# Altium footprint library PCB_Connector.PcbLib: 8 footprints
Each footprint in its own frame and in the unit in brackets; x right, y up, seen from the top. Pads: shape width x height; smd on the part's side, far side on the other; paste and mask are expansions set on the pad; w line width, h text height; cw(c..) or ccw(c..) is an arc to the next point about the centre after c.
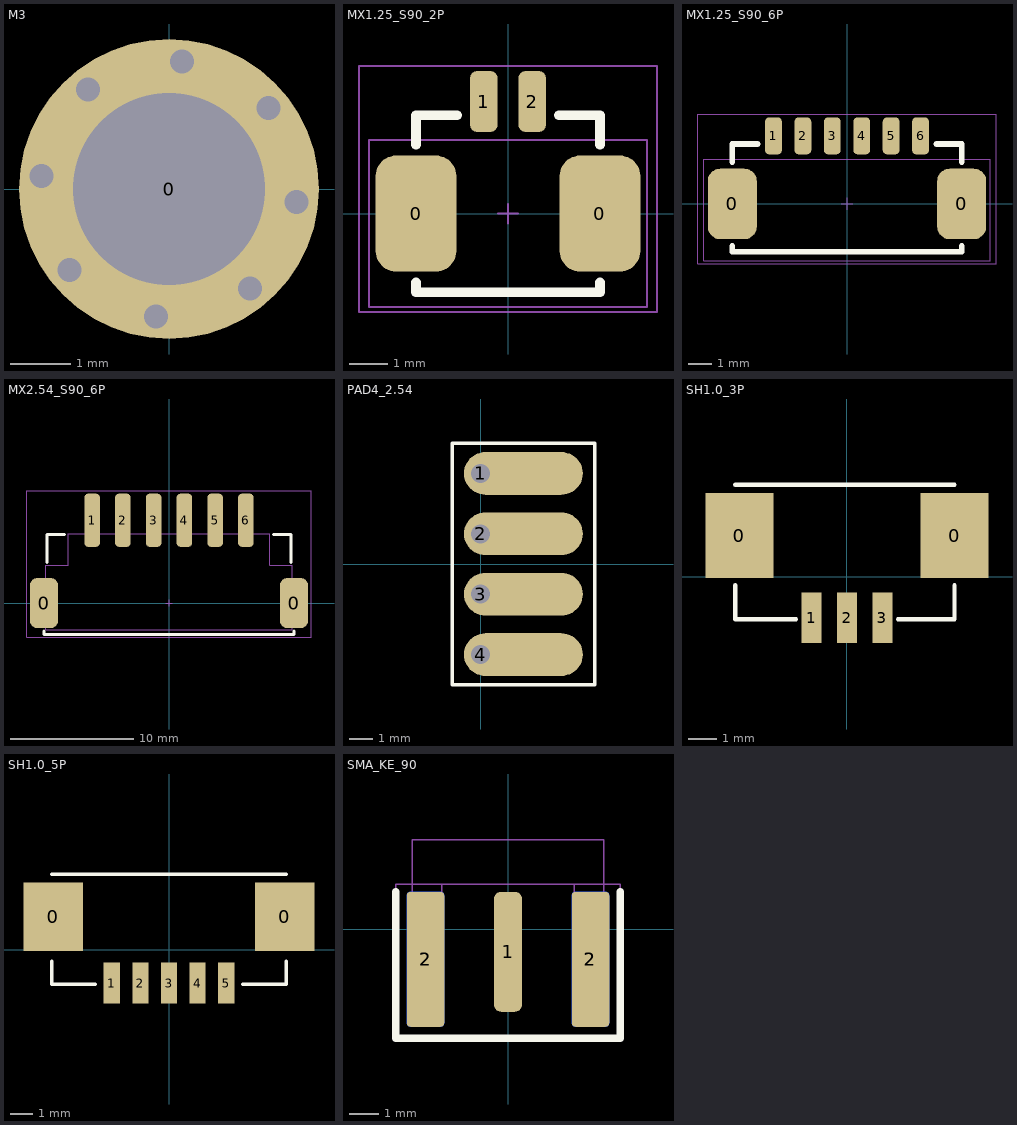
[diagram p0: the footprints below, top view; thin cyan lines are the x and y axes]

## M3 [mm]
pads (1):
  round 5 hole 3.2: 0(0,0)
via 1.654,1.351 diameter 0.7 hole 0.4
via 2.125,-0.214 diameter 0.7 hole 0.4
via 1.351,-1.654 diameter 0.7 hole 0.4
via -0.214,-2.125 diameter 0.7 hole 0.4
via -1.654,-1.351 diameter 0.7 hole 0.4
via -2.125,0.214 diameter 0.7 hole 0.4
via -1.351,1.654 diameter 0.7 hole 0.4
via 0.214,2.125 diameter 0.7 hole 0.4

## MX1.25_S90_2P [mil]
pads (4):
  rrect50% 82x118 smd: 0(-93.58,0) 0(93.58,0)
  rrect50% 28x62 smd: 1(-24.61,114) 2(24.61,114)
Top Overlay:
  lines w10: -93.58,-70 -93.58,-80 93.58,-80 93.58,-70 ; -93.58,70 -93.58,100 -51.58,100 ; 51.58,100 93.58,100 93.58,70
Mechanical 13:
  lines w2: -10,0 10,0 ; 0,-10 0,10 ; -141.58,-95 141.58,-95 141.58,75 -141.58,75 -141.58,-95
T-Component:
  lines w2: -151.58,-100 151.58,-100 151.58,150 -151.58,150 -151.58,-100
  text ".Designator" at -248.72,-21.56 h100
3D body "47641.stp": height 98.43, standoff -23.62, extent -146.65,-128.78 146.65,135

## MX1.25_S90_6P [mil]
pads (8):
  rrect50% 82x118 smd: 0(-192,0) 0(192,0)
  rrect50% 28x62 smd: 1(-123.03,114) 2(-73.82,114) 3(-24.61,114) 4(24.61,114) 5(73.82,114) 6(123.03,114)
Top Overlay:
  lines w10: -192,-70 -192,-80 192,-80 192,-70 ; -192,70 -192,100 -150,100 ; 150,100 192,100 192,70
Mechanical 13:
  lines w2: -10,0 10,0 ; 0,-10 0,10 ; -240,-95 -240,75 240,75 240,-95 -240,-95
T-Component:
  lines w2: -250,-100 -250,150 250,150 250,-100 -250,-100
  text ".Designator" at -248.72,-21.56 h100
3D body "532610671.stp": height 132.99, standoff -0.87, extent -249.01,-73.39 249.01,131.33

## MX2.54_S90_6P [mil]
pads (8):
  rrect50% 90x160 smd: 0(-400,0) 0(400,0)
  rrect50% 50x170 smd: 1(-246.06,265) 2(-147.64,265) 3(-49.21,265) 4(49.21,265) 5(147.64,265) 6(246.06,265)
Top Overlay:
  lines w10: -400,-90 -400,-100 400,-100 400,-90 ; -390,130 -390,220 -335,220 ; 335,220 390,220 390,130
Mechanical 13:
  lines w2: -10,0 10,0 ; 0,-10 0,10 ; -393.7,-85 -393.7,121.69 -322.83,121.69 -322.83,222.09 322.83,222.09 322.83,121.69 393.7,121.69 393.7,-85 -393.7,-85
T-Component:
  lines w2: -455,-110 455,-110 455,360 -455,360 -455,-110
  text ".Designator" at -248.72,-21.56 h100

## PAD4_2.54 [mm]
pads (4):
  oval 5x1.8 hole 0.8 copper offset 1.8,0: 1(0,3.81) 2(0,1.27) 3(0,-1.27) 4(0,-3.81)
Top Overlay:
  lines w0.15: -1.2,-5.08 4.8,-5.08 4.8,5.08 -1.2,5.08 -1.2,-5.08
3D body: height 0.5, standoff 0, extent -0.595,-4.409 0.6,-3.211
3D body: height 0.5, standoff 0, extent -0.595,0.671 0.6,1.869
3D body: height 0.5, standoff 0, extent -0.598,3.211 0.598,4.409
3D body: height 0.5, standoff 0, extent -0.595,-1.869 0.6,-0.671

## SH1.0_3P [mm]
pads (5):
  rect 2.4x3 smd: 0(-3.8,1.45) 0(3.8,1.45)
  rect 0.7x1.8 smd: 1(-1.25,-1.45) 2(0,-1.45) 3(1.25,-1.45)
Top Overlay:
  lines w0.15: -3.95,-0.3 -3.95,-1.5 -1.8,-1.5 ; -3.95,3.25 3.8,3.25 ; 1.8,-1.5 3.8,-1.5 3.8,-0.3
3D body: height 4.75, standoff 0, extent -3.95,-1.5 3.8,3.25

## SH1.0_5P [mm]
pads (7):
  rect 2.6x3 smd: 0(-5.05,1.45) 0(5.05,1.45)
  rect 0.7x1.8 smd: 1(-2.5,-1.45) 2(-1.25,-1.45) 3(0,-1.45) 4(1.25,-1.45) 5(2.5,-1.45)
Top Overlay:
  lines w0.15: -5.125,-0.5 -5.125,-1.5 -3.225,-1.5 ; -5.125,3.3 5.125,3.3 ; 3.225,-1.5 5.125,-1.5 5.125,-0.5
3D body: height 4.75, standoff 0, extent -5.125,-1.5 5.125,3.3

## SMA_KE_90 [mil]
pads (5):
  rrect50% 37.4x160 smd paste-160: 1(0,-30)
  rrect20% 50x180 smd paste-180: 2(-110,-40) 2(110,-40)
  rrect20% 50x180 smd far side paste-180: 2(-110,-40) 2(110,-40)
Top Overlay:
  lines w10: -150,50 -150,-145 150,-145 150,50
Mechanical 13:
  lines w2: -88.58,60 -88.58,-97.48 -127.95,-97.48 -127.95,60 ; -10,0 10,0 ; 0,-10 0,10 ; 88.58,60 88.58,-97.48 127.95,-97.48 127.95,60 ; -127.95,60 -127.95,119.06 127.95,119.06 127.95,60 ; -127.95,60 127.95,60
T-Component:
  lines w2: -150,-145 150,-145 150,60 -150,60 -150,-145
  text ".Designator" at -198.97,-17.25 h80
3D body "ALSRobot-SMA-KHD19A.STEP": height 125.98, standoff -114.17, extent -120.08,-100 120.08,431.49